# EAGLE library part LM324N (library chua)
QUADRUPLE OPERATIONAL AMPLIFIERS
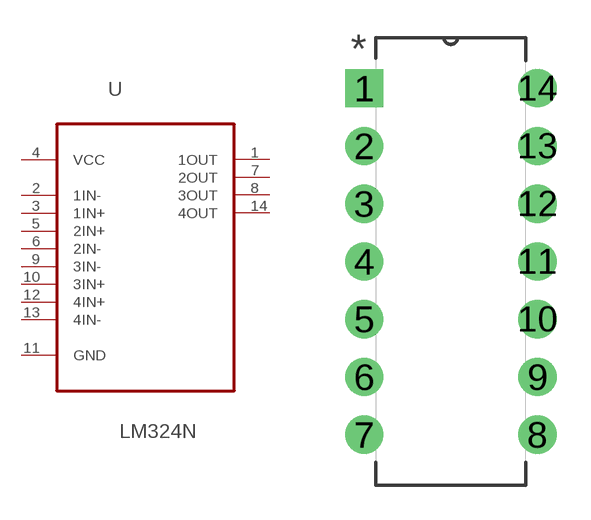
[diagram p1: symbol with the pads of DIP254P762X508-14; footprint DIP254P762X508-14]

Designator prefix U

## LM324N (MPN: LM324N; OC_FARNELL: 1564884; OC_NEWARK: 60K6190; PACKAGE: DIP-14; SUPPLIER: Texas Instruments)  [DIP254P762X508-14]
1  1OUT  out
2  1IN-  in
3  1IN+  in
4  VCC  pwr
5  2IN+  in
6  2IN-  in
7  2OUT  out
8  3OUT  out
9  3IN-  in
10  3IN+  in
11  GND  pas
12  4IN+  in
13  4IN-  in
14  4OUT  out

## Footprint DIP254P762X508-14 (pad centres in mm)
drill 1.118 square: 1 -7.62,15.24
drill 1.118: 2 -7.62,12.7; 3 -7.62,10.16; 4 -7.62,7.62; 5 -7.62,5.08; 6 -7.62,2.54; 7 -7.62,0; 8 0,0; 9 0,2.54; 10 0,5.08; 11 0,7.62; 12 0,10.16; 13 0,12.7; 14 0,15.24